# EAGLE library part MP9928 (library MP9928)
MP9928 4-60v synchronous buck controller
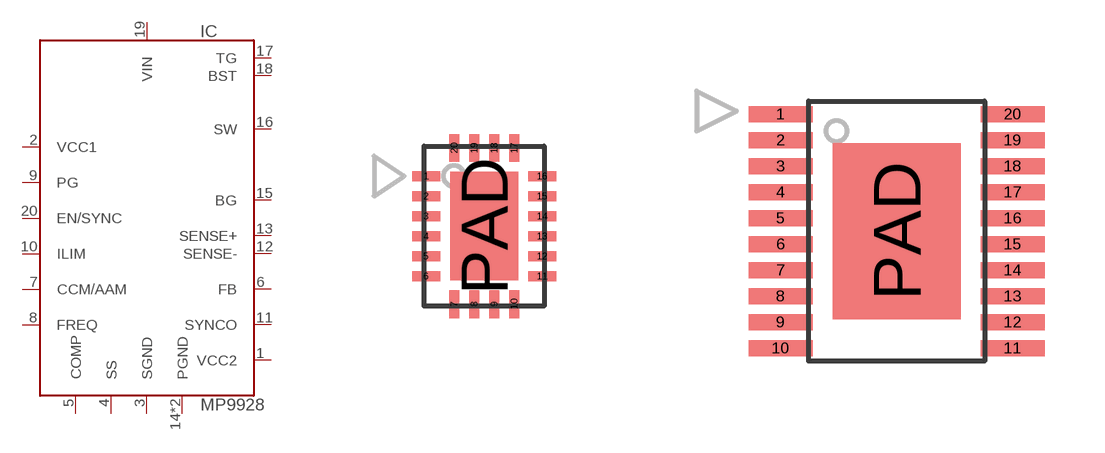
[diagram p0: symbol with the pads of QFN20-0.5-3X4; footprints QFN20-0.5-3X4, TSSOP-20-EP]

Designator prefix IC

## MP9928GL (MARK: MP__ 9928; MF: Monolithic Power; MPN: MP9928GL)  [QFN20-0.5-3X4]
1  VCC2
2  VCC1
3  SGND  pwr
4  SS
5  COMP
6  FB  in
7  CCM/AAM  in
8  FREQ
9  PG  oc
10  ILIM  in
11  SYNCO  out
12  SENSE-  in
13  SENSE+  in
14  PGND  pwr
15  BG  out
16  SW  in
17  TG  out
18  BST
19  VIN  pwr
20  EN/SYNC  in
PAD  PGND  pwr

## MP9928GF (MARK: MP9928; MF: Monolithic Power; MPN: MP9928GF)  [TSSOP-20-EP]
1  VIN  pwr
2  EN/SYNC  in
3  VCC2
4  VCC1
5  SGND  pwr
6  SS
7  COMP
8  FB  in
9  CCM/AAM  in
10  FREQ
11  PG  oc
12  ILIM  in
13  SYNCO  out
14  SENSE-  in
15  SENSE+  in
16  PGND  pwr
17  BG  out
18  SW  in
19  TG  out
20  BST
PAD  PGND  pwr

## Footprint QFN20-0.5-3X4 (pad centres in mm)
smd 0.7 x 0.25: 1 -1.45,1.25; 2 -1.45,0.75; 3 -1.45,0.25; 4 -1.45,-0.25; 5 -1.45,-0.75; 6 -1.45,-1.25; 11 1.45,-1.25; 12 1.45,-0.75; 13 1.45,-0.25; 14 1.45,0.25; 15 1.45,0.75; 16 1.45,1.25
smd 0.25 x 0.7: 7 -0.75,-1.95; 8 -0.25,-1.95; 9 0.25,-1.95; 10 0.75,-1.95; 17 0.75,1.95; 18 0.25,1.95; 19 -0.25,1.95; 20 -0.75,1.95
smd 1.7 x 2.7: PAD 0,0

## Footprint TSSOP-20-EP (pad centres in mm)
smd 1.6 x 0.4: 1 -2.9,2.925; 2 -2.9,2.275; 3 -2.9,1.625; 4 -2.9,0.975; 5 -2.9,0.325; 6 -2.9,-0.325; 7 -2.9,-0.975; 8 -2.9,-1.625; 9 -2.9,-2.275; 10 -2.9,-2.925; 11 2.9,-2.925; 12 2.9,-2.275; 13 2.9,-1.625; 14 2.9,-0.975; 15 2.9,-0.325; 16 2.9,0.325; 17 2.9,0.975; 18 2.9,1.625; 19 2.9,2.275; 20 2.9,2.925
smd 3.2 x 4.4: PAD 0,0